# Altium schematic symbol library CN_10P.SchLib: 1 symbol
Pins are listed as number, name and electrical type; pins without a type are passive.

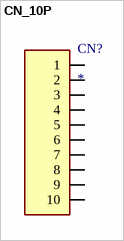
[diagram p0: symbol CN_10P]

## CN_10P
designator CN?
pins: 1, 2, 3, 4, 5, 6, 7, 8, 9, 10